# EAGLE library part PCI_64_EDGE (library EW_Connectors)
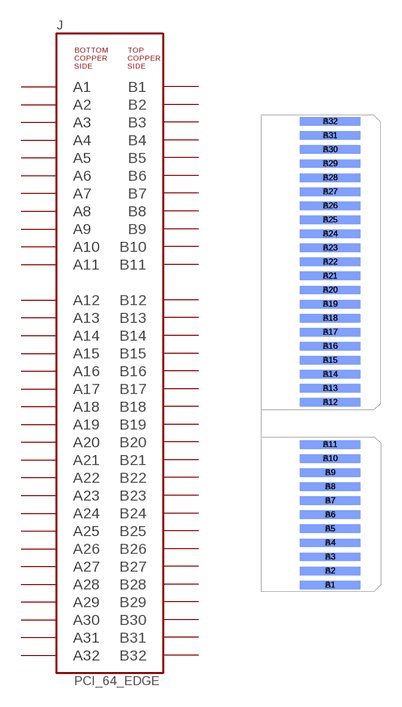
[diagram p18: symbol with the pads of PCI_64_EDGE; footprint PCI_64_EDGE]

Designator prefix J

## PCI_64_EDGE  [PCI_64_EDGE]
A1  A1
A2  A2
A3  A3
A4  A4
A5  A5
A6  A6
A7  A7
A8  A8
A9  A9
A10  A10
A11  A11
A12  A12
A13  A13
A14  A14
A15  A15
A16  A16
A17  A17
A18  A18
A19  A19
A20  A20
A21  A21
A22  A22
A23  A23
A24  A24
A25  A25
A26  A26
A27  A27
A28  A28
A29  A29
A30  A30
A31  A31
A32  A32
B1  B1
B2  B2
B3  B3
B4  B4
B5  B5
B6  B6
B7  B7
B8  B8
B9  B9
B10  B10
B11  B11
B12  B12
B13  B13
B14  B14
B15  B15
B16  B16
B17  B17
B18  B18
B19  B19
B20  B20
B21  B21
B22  B22
B23  B23
B24  B24
B25  B25
B26  B26
B27  B27
B28  B28
B29  B29
B30  B30
B31  B31
B32  B32

## Footprint PCI_64_EDGE (pad centres in mm)
PCI BOARD SHORT
smd 4.3 x 0.6 bottom: A1 -3.6,0; A2 -3.6,1; A3 -3.6,2; A4 -3.6,3; A5 -3.6,4; A6 -3.6,5; A7 -3.6,6; A8 -3.6,7; A9 -3.6,8; A10 -3.6,9; A11 -3.6,10; A12 -3.6,13; A13 -3.6,14; A14 -3.6,15; A15 -3.6,16; A16 -3.6,17; A17 -3.6,18; A18 -3.6,19; A19 -3.6,20; A20 -3.6,21; A21 -3.6,22; A22 -3.6,23; A23 -3.6,24; A24 -3.6,25; A25 -3.6,26; A26 -3.6,27; A27 -3.6,28; A28 -3.6,29; A29 -3.6,30; A30 -3.6,31; A31 -3.6,32; A32 -3.6,33
smd 4.3 x 0.6: B1 -3.6,0; B2 -3.6,1; B3 -3.6,2; B4 -3.6,3; B5 -3.6,4; B6 -3.6,5; B7 -3.6,6; B8 -3.6,7; B9 -3.6,8; B10 -3.6,9; B11 -3.6,10; B12 -3.6,13; B13 -3.6,14; B14 -3.6,15; B15 -3.6,16; B16 -3.6,17; B17 -3.6,18; B18 -3.6,19; B19 -3.6,20; B20 -3.6,21; B21 -3.6,22; B22 -3.6,23; B23 -3.6,24; B24 -3.6,25; B25 -3.6,26; B26 -3.6,27; B27 -3.6,28; B28 -3.6,29; B29 -3.6,30; B30 -3.6,31; B31 -3.6,32; B32 -3.6,33